# EAGLE library part CH340N (library CH340N)
Check availability <https://pricing.snapeda.com/parts/CH340N/WCH/view-part?ref=eda>
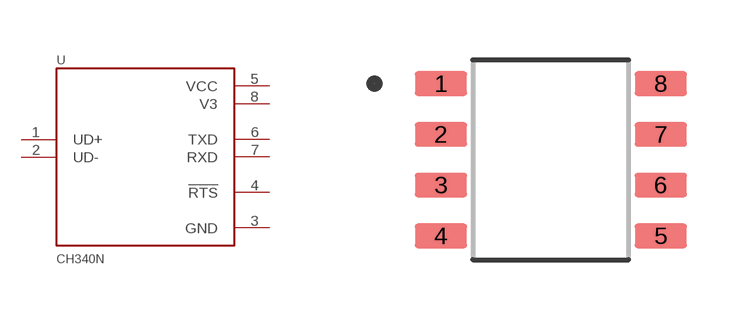
[diagram p0: symbol with the pads of SOIC127P600X160-8N; footprint SOIC127P600X160-8N]

Designator prefix U

## CH340N (Availability: Not in stock; Check_prices: https://www.snapeda.com/parts/CH340N/WCH/view-part/?ref=eda; Description: USB to Serial Port Chip; MF: WCH; MP: CH340N; Package: Package; Price: None; SnapEDA_Link: https://www.snapeda.com/parts/CH340N/WCH/view-part/?ref=snap)  [SOIC127P600X160-8N]
1  UD+
2  UD-
3  GND  pwr
4  !RTS  out
5  VCC  pwr
6  TXD  out
7  RXD  in
8  V3  pwr

## Footprint SOIC127P600X160-8N (pad centres in mm)
smd 1.31 x 0.62: 1 -2.75,1.905; 2 -2.75,0.635; 3 -2.75,-0.635; 4 -2.75,-1.905; 5 2.75,-1.905; 6 2.75,-0.635; 7 2.75,0.635; 8 2.75,1.905